# Altium integrated library SparkFun-Hardware.IntLib: 15 symbols
Pins are listed as number, name and electrical type; pins without a type are passive.

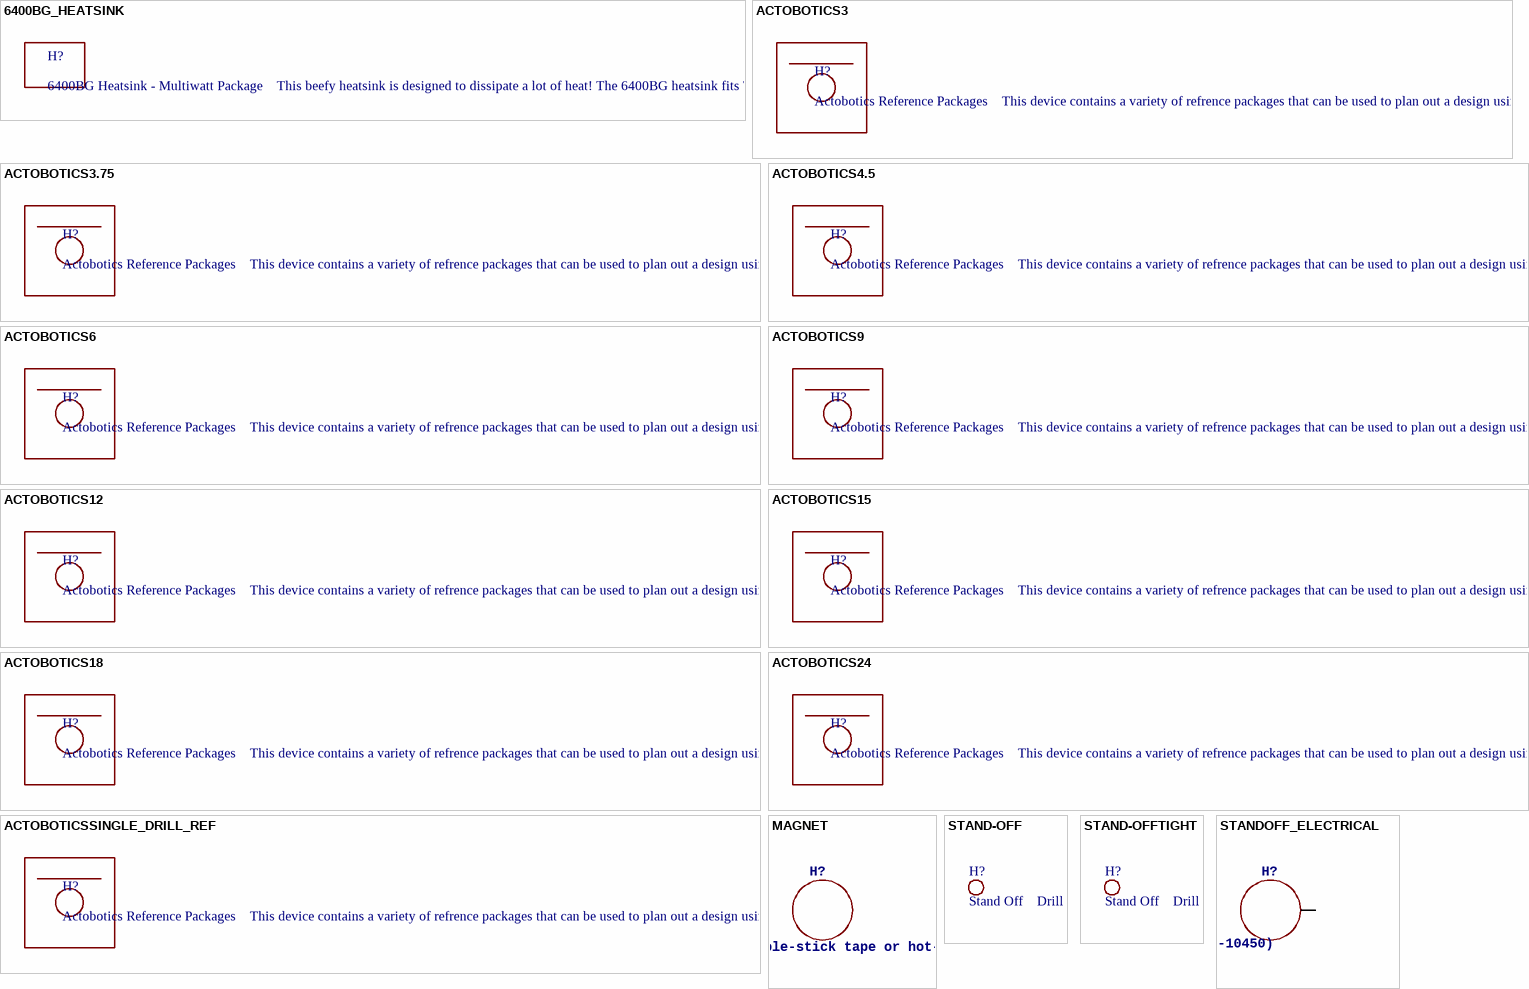
[diagram p0: symbols 6400BG_HEATSINK to STANDOFF_ELECTRICAL]

## 6400BG_HEATSINK
designator H?, comment 6400BG Heatsink - Multiwatt Package    This beefy heatsink is designed to dissipate a lot of heat! The 6400BG heatsink fits TO-220, TO-218, TO-247, and Multiwatt packages - which means it’s a great fit for the STA540, L298N, and all of our T-220 package voltage regulators.   SparkFun Products Heat Sink - Multiwatt Package (PRT-09576)
PROD_ID: COMP-09537; SF_SKU: PRT-09576
footprint 6400BG_HEATSINK

## ACTOBOTICS3
designator H?, comment Actobotics Reference Packages    This device contains a variety of refrence packages that can be used to plan out a design using actobotics hardware.   Note, none of these packages have electrical conections (pins or pads), they are intended to be used for referencing drill spacing on Actobotics hardware.    It can take a lot of precise planning, measuring and calculating to mate a PCB design with the drill spacing of your projects hardware.     If you drop these packages into your eagle design, you can more easily know exactly where your drill hits should be.    Note, you could simply add these packages directly to your board file (without ever adding the "device" to your schematic). We created this device simple to make this collection of packages organized and more accessible     The "CHANNEL" packages simply have the outline of the Actobotics part, with some dotted lines to show the 1" and 0.5" grid points. If you set your grid to 0.75", then you can easlity place these various channels down to plan out your project.   The "SINGLE_DRILL_REF" package contains the actual drill hit positions. It also contains the diameter for each drill hit. Once you have your channels layed out, then you can drop some of these packages on top to see the drill hit spacing.   Note, all of these packages are drawn on the "tDocu" layer (51), so make sure that is turned on when viewing your design.   SparkFun Products:  Aluminum Channel - 24"  Aluminum Channel - 18"  Aluminum Channel - 15"  Aluminum Channel - 12"  Aluminum Channel - 9.0"  Aluminum Channel - 6.0"  Aluminum Channel - 4.50"  Aluminum Channel - 3.75"   Aluminum Channel - 3.0"  Aluminum Channel - 1.50"
footprint ACTOBOTICS_CHANNEL_3"

## ACTOBOTICS3.75
designator H?, comment Actobotics Reference Packages    This device contains a variety of refrence packages that can be used to plan out a design using actobotics hardware.   Note, none of these packages have electrical conections (pins or pads), they are intended to be used for referencing drill spacing on Actobotics hardware.    It can take a lot of precise planning, measuring and calculating to mate a PCB design with the drill spacing of your projects hardware.     If you drop these packages into your eagle design, you can more easily know exactly where your drill hits should be.    Note, you could simply add these packages directly to your board file (without ever adding the "device" to your schematic). We created this device simple to make this collection of packages organized and more accessible     The "CHANNEL" packages simply have the outline of the Actobotics part, with some dotted lines to show the 1" and 0.5" grid points. If you set your grid to 0.75", then you can easlity place these various channels down to plan out your project.   The "SINGLE_DRILL_REF" package contains the actual drill hit positions. It also contains the diameter for each drill hit. Once you have your channels layed out, then you can drop some of these packages on top to see the drill hit spacing.   Note, all of these packages are drawn on the "tDocu" layer (51), so make sure that is turned on when viewing your design.   SparkFun Products:  Aluminum Channel - 24"  Aluminum Channel - 18"  Aluminum Channel - 15"  Aluminum Channel - 12"  Aluminum Channel - 9.0"  Aluminum Channel - 6.0"  Aluminum Channel - 4.50"  Aluminum Channel - 3.75"   Aluminum Channel - 3.0"  Aluminum Channel - 1.50"
footprint ACTOBOTICS_CHANNEL_3.75"

## ACTOBOTICS4.5
designator H?, comment Actobotics Reference Packages    This device contains a variety of refrence packages that can be used to plan out a design using actobotics hardware.   Note, none of these packages have electrical conections (pins or pads), they are intended to be used for referencing drill spacing on Actobotics hardware.    It can take a lot of precise planning, measuring and calculating to mate a PCB design with the drill spacing of your projects hardware.     If you drop these packages into your eagle design, you can more easily know exactly where your drill hits should be.    Note, you could simply add these packages directly to your board file (without ever adding the "device" to your schematic). We created this device simple to make this collection of packages organized and more accessible     The "CHANNEL" packages simply have the outline of the Actobotics part, with some dotted lines to show the 1" and 0.5" grid points. If you set your grid to 0.75", then you can easlity place these various channels down to plan out your project.   The "SINGLE_DRILL_REF" package contains the actual drill hit positions. It also contains the diameter for each drill hit. Once you have your channels layed out, then you can drop some of these packages on top to see the drill hit spacing.   Note, all of these packages are drawn on the "tDocu" layer (51), so make sure that is turned on when viewing your design.   SparkFun Products:  Aluminum Channel - 24"  Aluminum Channel - 18"  Aluminum Channel - 15"  Aluminum Channel - 12"  Aluminum Channel - 9.0"  Aluminum Channel - 6.0"  Aluminum Channel - 4.50"  Aluminum Channel - 3.75"   Aluminum Channel - 3.0"  Aluminum Channel - 1.50"
footprint ACTOBOTICS_CHANNEL_4.5"

## ACTOBOTICS6
designator H?, comment Actobotics Reference Packages    This device contains a variety of refrence packages that can be used to plan out a design using actobotics hardware.   Note, none of these packages have electrical conections (pins or pads), they are intended to be used for referencing drill spacing on Actobotics hardware.    It can take a lot of precise planning, measuring and calculating to mate a PCB design with the drill spacing of your projects hardware.     If you drop these packages into your eagle design, you can more easily know exactly where your drill hits should be.    Note, you could simply add these packages directly to your board file (without ever adding the "device" to your schematic). We created this device simple to make this collection of packages organized and more accessible     The "CHANNEL" packages simply have the outline of the Actobotics part, with some dotted lines to show the 1" and 0.5" grid points. If you set your grid to 0.75", then you can easlity place these various channels down to plan out your project.   The "SINGLE_DRILL_REF" package contains the actual drill hit positions. It also contains the diameter for each drill hit. Once you have your channels layed out, then you can drop some of these packages on top to see the drill hit spacing.   Note, all of these packages are drawn on the "tDocu" layer (51), so make sure that is turned on when viewing your design.   SparkFun Products:  Aluminum Channel - 24"  Aluminum Channel - 18"  Aluminum Channel - 15"  Aluminum Channel - 12"  Aluminum Channel - 9.0"  Aluminum Channel - 6.0"  Aluminum Channel - 4.50"  Aluminum Channel - 3.75"   Aluminum Channel - 3.0"  Aluminum Channel - 1.50"
footprint ACTOBOTICS_CHANNEL_6"

## ACTOBOTICS9
designator H?, comment Actobotics Reference Packages    This device contains a variety of refrence packages that can be used to plan out a design using actobotics hardware.   Note, none of these packages have electrical conections (pins or pads), they are intended to be used for referencing drill spacing on Actobotics hardware.    It can take a lot of precise planning, measuring and calculating to mate a PCB design with the drill spacing of your projects hardware.     If you drop these packages into your eagle design, you can more easily know exactly where your drill hits should be.    Note, you could simply add these packages directly to your board file (without ever adding the "device" to your schematic). We created this device simple to make this collection of packages organized and more accessible     The "CHANNEL" packages simply have the outline of the Actobotics part, with some dotted lines to show the 1" and 0.5" grid points. If you set your grid to 0.75", then you can easlity place these various channels down to plan out your project.   The "SINGLE_DRILL_REF" package contains the actual drill hit positions. It also contains the diameter for each drill hit. Once you have your channels layed out, then you can drop some of these packages on top to see the drill hit spacing.   Note, all of these packages are drawn on the "tDocu" layer (51), so make sure that is turned on when viewing your design.   SparkFun Products:  Aluminum Channel - 24"  Aluminum Channel - 18"  Aluminum Channel - 15"  Aluminum Channel - 12"  Aluminum Channel - 9.0"  Aluminum Channel - 6.0"  Aluminum Channel - 4.50"  Aluminum Channel - 3.75"   Aluminum Channel - 3.0"  Aluminum Channel - 1.50"
footprint ACTOBOTICS_CHANNEL_9"

## ACTOBOTICS12
designator H?, comment Actobotics Reference Packages    This device contains a variety of refrence packages that can be used to plan out a design using actobotics hardware.   Note, none of these packages have electrical conections (pins or pads), they are intended to be used for referencing drill spacing on Actobotics hardware.    It can take a lot of precise planning, measuring and calculating to mate a PCB design with the drill spacing of your projects hardware.     If you drop these packages into your eagle design, you can more easily know exactly where your drill hits should be.    Note, you could simply add these packages directly to your board file (without ever adding the "device" to your schematic). We created this device simple to make this collection of packages organized and more accessible     The "CHANNEL" packages simply have the outline of the Actobotics part, with some dotted lines to show the 1" and 0.5" grid points. If you set your grid to 0.75", then you can easlity place these various channels down to plan out your project.   The "SINGLE_DRILL_REF" package contains the actual drill hit positions. It also contains the diameter for each drill hit. Once you have your channels layed out, then you can drop some of these packages on top to see the drill hit spacing.   Note, all of these packages are drawn on the "tDocu" layer (51), so make sure that is turned on when viewing your design.   SparkFun Products:  Aluminum Channel - 24"  Aluminum Channel - 18"  Aluminum Channel - 15"  Aluminum Channel - 12"  Aluminum Channel - 9.0"  Aluminum Channel - 6.0"  Aluminum Channel - 4.50"  Aluminum Channel - 3.75"   Aluminum Channel - 3.0"  Aluminum Channel - 1.50"
footprint ACTOBOTICS_CHANNEL_12"

## ACTOBOTICS15
designator H?, comment Actobotics Reference Packages    This device contains a variety of refrence packages that can be used to plan out a design using actobotics hardware.   Note, none of these packages have electrical conections (pins or pads), they are intended to be used for referencing drill spacing on Actobotics hardware.    It can take a lot of precise planning, measuring and calculating to mate a PCB design with the drill spacing of your projects hardware.     If you drop these packages into your eagle design, you can more easily know exactly where your drill hits should be.    Note, you could simply add these packages directly to your board file (without ever adding the "device" to your schematic). We created this device simple to make this collection of packages organized and more accessible     The "CHANNEL" packages simply have the outline of the Actobotics part, with some dotted lines to show the 1" and 0.5" grid points. If you set your grid to 0.75", then you can easlity place these various channels down to plan out your project.   The "SINGLE_DRILL_REF" package contains the actual drill hit positions. It also contains the diameter for each drill hit. Once you have your channels layed out, then you can drop some of these packages on top to see the drill hit spacing.   Note, all of these packages are drawn on the "tDocu" layer (51), so make sure that is turned on when viewing your design.   SparkFun Products:  Aluminum Channel - 24"  Aluminum Channel - 18"  Aluminum Channel - 15"  Aluminum Channel - 12"  Aluminum Channel - 9.0"  Aluminum Channel - 6.0"  Aluminum Channel - 4.50"  Aluminum Channel - 3.75"   Aluminum Channel - 3.0"  Aluminum Channel - 1.50"
footprint ACTOBOTICS_CHANNEL_15"

## ACTOBOTICS18
designator H?, comment Actobotics Reference Packages    This device contains a variety of refrence packages that can be used to plan out a design using actobotics hardware.   Note, none of these packages have electrical conections (pins or pads), they are intended to be used for referencing drill spacing on Actobotics hardware.    It can take a lot of precise planning, measuring and calculating to mate a PCB design with the drill spacing of your projects hardware.     If you drop these packages into your eagle design, you can more easily know exactly where your drill hits should be.    Note, you could simply add these packages directly to your board file (without ever adding the "device" to your schematic). We created this device simple to make this collection of packages organized and more accessible     The "CHANNEL" packages simply have the outline of the Actobotics part, with some dotted lines to show the 1" and 0.5" grid points. If you set your grid to 0.75", then you can easlity place these various channels down to plan out your project.   The "SINGLE_DRILL_REF" package contains the actual drill hit positions. It also contains the diameter for each drill hit. Once you have your channels layed out, then you can drop some of these packages on top to see the drill hit spacing.   Note, all of these packages are drawn on the "tDocu" layer (51), so make sure that is turned on when viewing your design.   SparkFun Products:  Aluminum Channel - 24"  Aluminum Channel - 18"  Aluminum Channel - 15"  Aluminum Channel - 12"  Aluminum Channel - 9.0"  Aluminum Channel - 6.0"  Aluminum Channel - 4.50"  Aluminum Channel - 3.75"   Aluminum Channel - 3.0"  Aluminum Channel - 1.50"
footprint ACTOBOTICS_CHANNEL_18"

## ACTOBOTICS24
designator H?, comment Actobotics Reference Packages    This device contains a variety of refrence packages that can be used to plan out a design using actobotics hardware.   Note, none of these packages have electrical conections (pins or pads), they are intended to be used for referencing drill spacing on Actobotics hardware.    It can take a lot of precise planning, measuring and calculating to mate a PCB design with the drill spacing of your projects hardware.     If you drop these packages into your eagle design, you can more easily know exactly where your drill hits should be.    Note, you could simply add these packages directly to your board file (without ever adding the "device" to your schematic). We created this device simple to make this collection of packages organized and more accessible     The "CHANNEL" packages simply have the outline of the Actobotics part, with some dotted lines to show the 1" and 0.5" grid points. If you set your grid to 0.75", then you can easlity place these various channels down to plan out your project.   The "SINGLE_DRILL_REF" package contains the actual drill hit positions. It also contains the diameter for each drill hit. Once you have your channels layed out, then you can drop some of these packages on top to see the drill hit spacing.   Note, all of these packages are drawn on the "tDocu" layer (51), so make sure that is turned on when viewing your design.   SparkFun Products:  Aluminum Channel - 24"  Aluminum Channel - 18"  Aluminum Channel - 15"  Aluminum Channel - 12"  Aluminum Channel - 9.0"  Aluminum Channel - 6.0"  Aluminum Channel - 4.50"  Aluminum Channel - 3.75"   Aluminum Channel - 3.0"  Aluminum Channel - 1.50"
footprint ACTOBOTICS_CHANNEL_24"

## ACTOBOTICSSINGLE_DRILL_REF
designator H?, comment Actobotics Reference Packages    This device contains a variety of refrence packages that can be used to plan out a design using actobotics hardware.   Note, none of these packages have electrical conections (pins or pads), they are intended to be used for referencing drill spacing on Actobotics hardware.    It can take a lot of precise planning, measuring and calculating to mate a PCB design with the drill spacing of your projects hardware.     If you drop these packages into your eagle design, you can more easily know exactly where your drill hits should be.    Note, you could simply add these packages directly to your board file (without ever adding the "device" to your schematic). We created this device simple to make this collection of packages organized and more accessible     The "CHANNEL" packages simply have the outline of the Actobotics part, with some dotted lines to show the 1" and 0.5" grid points. If you set your grid to 0.75", then you can easlity place these various channels down to plan out your project.   The "SINGLE_DRILL_REF" package contains the actual drill hit positions. It also contains the diameter for each drill hit. Once you have your channels layed out, then you can drop some of these packages on top to see the drill hit spacing.   Note, all of these packages are drawn on the "tDocu" layer (51), so make sure that is turned on when viewing your design.   SparkFun Products:  Aluminum Channel - 24"  Aluminum Channel - 18"  Aluminum Channel - 15"  Aluminum Channel - 12"  Aluminum Channel - 9.0"  Aluminum Channel - 6.0"  Aluminum Channel - 4.50"  Aluminum Channel - 3.75"   Aluminum Channel - 3.0"  Aluminum Channel - 1.50"
footprint ACTOBOTICS_CHANNEL_SINGLE_DRILL_REF

## MAGNET
designator H?, comment Magnet    Magnets that can be attached to a PCB with double-stick tape or hot-glue. SparkFun Products  Magnet Disk - 0.709" (COM-08890)
PROD_ID: COMP-09030; SF_SKU: COM-08890
footprint MAGNET-18MM

## STAND-OFF
designator H?, comment Stand Off    Drill holes for mechanically mounting via screws, standoffs, etc.   Note: Use the keepout ring to avoid running the screw head into surrounding components.  Variant Overviews  STAND-OFF - Mechanical footprint for a #4 phillips button head screw.  STAND-OFF-TIGHT - Mechanical footprint for a #4 phillips button head screw,      Example SparkFun Products  Screw - Phillips Head (1/4", 4-40, 10 pack) (PRT-10453)  Screw - Phillips Head (1/2", 4-40, 10 pack) (PRT-10452)  Screw - Phillips Head (3/4", 4-40, 10 pack) (PRT-10451)  Screw - Phillips Head (1", 4-40, 10 pack) (PRT-10450)
footprint STAND-OFF

## STAND-OFFTIGHT
designator H?, comment Stand Off    Drill holes for mechanically mounting via screws, standoffs, etc.   Note: Use the keepout ring to avoid running the screw head into surrounding components.  Variant Overviews  STAND-OFF - Mechanical footprint for a #4 phillips button head screw.  STAND-OFF-TIGHT - Mechanical footprint for a #4 phillips button head screw,      Example SparkFun Products  Screw - Phillips Head (1/4", 4-40, 10 pack) (PRT-10453)  Screw - Phillips Head (1/2", 4-40, 10 pack) (PRT-10452)  Screw - Phillips Head (3/4", 4-40, 10 pack) (PRT-10451)  Screw - Phillips Head (1", 4-40, 10 pack) (PRT-10450)
footprint STAND-OFF-TIGHT

## STANDOFF_ELECTRICAL
designator H?, comment Stand Off    Drill holes with an electrical connection. For example, use these to ground your board to a chassis. Example SparkFun Products  Screw - Phillips Head (1/4", 4-40, 10 pack) (PRT-10453)  Screw - Phillips Head (1/2", 4-40, 10 pack) (PRT-10452)  Screw - Phillips Head (3/4", 4-40, 10 pack) (PRT-10451)  Screw - Phillips Head (1", 4-40, 10 pack) (PRT-10450)
footprint STANDOFF-ELECTRICAL
pins: P1 P$1